# Altium integrated library ON Semi General Purpose Transistors.IntLib: 1679 symbols (part 3 of 36)
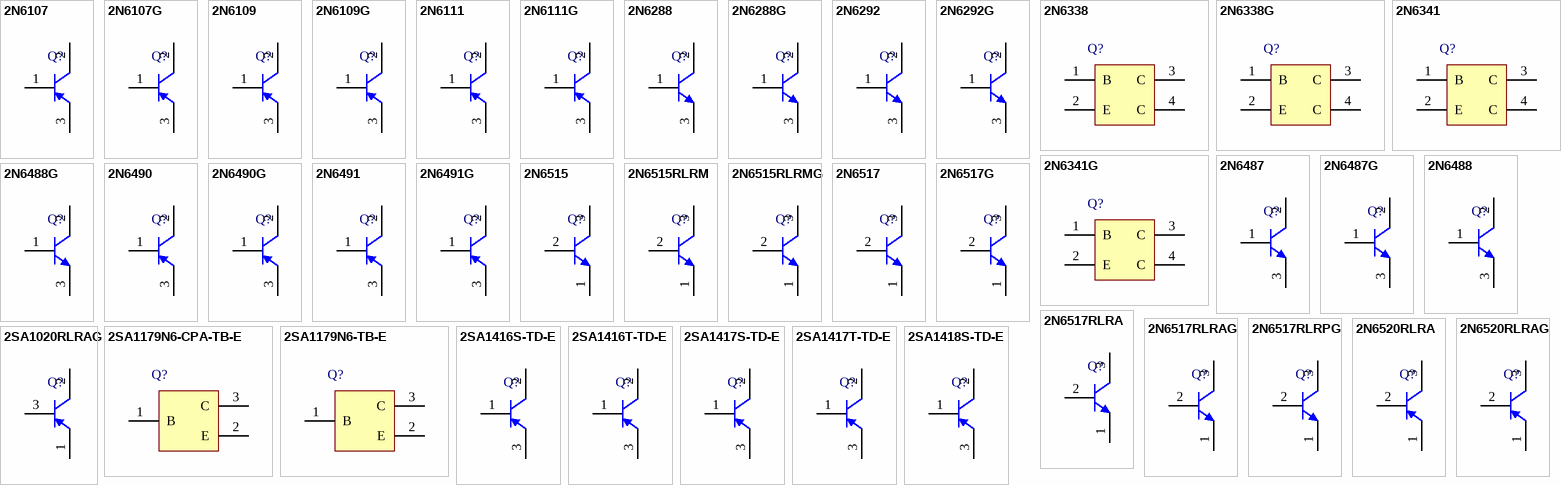
[diagram p47: symbols 2N6107 to 2SA1418S-TD-E]

## 2N6491G
designator Q?
Complementary Silicon Plastic Power Transistor, 3-Pin TO-220, Pb-Free, Tube; Manufacturer: On Semiconductor; PartNumber: 2N6491G; fT Min (MHz): 5; IC Continuous (A): 15; Polarity: PNP; DatasheetVersion: Rev. 15; PackageVersion: Rev. AG, 09/2011; PackageReference: TO-220-3-221A-09; PackageDescription: 3-Pin Flange Mount, Vertical Straight Lead, Body 9.97 x 4.445 mm, Pitch 2.54 mm; Supplier 1: Digi-Key; Supplier Part Number 1: 2N6491GOS-ND; Supplier 2: Newark; Supplier Part Number 2: 72J1874; Supplier 3: Mouser; Supplier Part Number 3: 863-2N6491G; Packing: Tube; RoHS: TRUE; Mounting Technology: Through Hole; ComponentLink1Description: Manufacturer URL; ComponentLink1URL: http://www.onsemi.com/; ComponentLink2Description: Datasheet; ComponentLink2URL: http://www.onsemi.com/pub_link/Collateral/2N6487-D.PDF; ComponentLink3Description: Package Specification; ComponentLink3URL: http://www.onsemi.com/pub_link/Collateral/221A-09.PDF
footprint ONSC-TO-220-3-221A-09 (FM, 3-Leads, Body 10.3x4.85mm, Pitch 2.54mm)
pins: 1 B, 2 C, 3 E

## 2N6515
designator Q?
High Voltage Transistor, NPN, 3-Pin TO-92, Bulk Box; Manufacturer: On Semiconductor; PartNumber: 2N6515; fT Min (MHz): 40; IC Continuous (A): 0.5; DatasheetVersion: Rev. 5; PackageVersion: Rev. AM; PackageReference: TO-92-3-29-11_AM_SL; PackageDescription: 3-Pin Transistor Outline, Body 4.825 x 3.685 mm, Pitch 1.27 mm; Supplier 1: Digi-Key; Supplier Part Number 1: 2N6515-ND; Supplier 2: Newark; Supplier Part Number 2: 09F6456; Supplier 3: Mouser; Supplier Part Number 3: 863-2N6515; Packing: Bulk Box; Polarity: NPN; RoHS: FALSE; Mounting Technology: Through Hole; ComponentLink1Description: Manufacturer URL; ComponentLink1URL: http://www.onsemi.com/; ComponentLink2Description: Datasheet; ComponentLink2URL: http://www.onsemi.com/pub_link/Collateral/2N6515-D.PDF; ComponentLink3Description: Package Specification; ComponentLink3URL: http://www.onsemi.cn/pub_link/Collateral/2N6426-D.PDF
footprint ONSC-TO-92-3-29-11 (TO, 3-Leads, Body Dia 4.7mm, Pitch 1.27mm)
pins: 1 E, 2 B, 3 C

## 2N6515RLRM
designator Q?
High Voltage Transistor, NPN, 3-Pin TO-92, Ammo Box; Manufacturer: On Semiconductor; PartNumber: 2N6515RLRM; fT Min (MHz): 40; IC Continuous (A): 0.5; DatasheetVersion: Rev. 5; PackageVersion: Rev. AM; PackageReference: TO-92-3-29-11_AM_BL; PackageDescription: 3-Pin Transistor Outline, Body 4.825 x 3.685 mm, Pitch 1.27 mm; Supplier 1: Digi-Key; Supplier Part Number 1: 2N6515RLRM-ND; Supplier 2: Mouser; Supplier Part Number 2: 863-2N6515RLRM; Packing: Ammo Box; Polarity: NPN; RoHS: FALSE; Mounting Technology: Through Hole; ComponentLink1Description: Manufacturer URL; ComponentLink1URL: http://www.onsemi.com/; ComponentLink2Description: Datasheet; ComponentLink2URL: http://www.onsemi.com/pub_link/Collateral/2N6515-D.PDF; ComponentLink3Description: Package Specification; ComponentLink3URL: http://www.onsemi.com/pub_link/Collateral/MAC97-D.PDF
footprint ONSC-TO-92-3-29-11_AM_BL (TO, 3-Leads, Body Dia 4.7mm, Pitch 2.6mm)
pins: 1 E, 2 B, 3 C

## 2N6515RLRMG
designator Q?
High Voltage Transistor, NPN, 3-Pin TO-92, Pb-Free, Ammo Box; Manufacturer: On Semiconductor; PartNumber: 2N6515RLRMG; fT Min (MHz): 40; IC Continuous (A): 0.5; DatasheetVersion: Rev. 5; PackageVersion: Rev. AM; PackageReference: TO-92-3-29-11_AM_BL; PackageDescription: 3-Pin Transistor Outline, Body 4.825 x 3.685 mm, Pitch 1.27 mm; Supplier 1: Digi-Key; Supplier Part Number 1: 2N6515RLRMG-ND; Supplier 2: Mouser; Supplier Part Number 2: 863-2N6515RLRMG; Packing: Ammo Box; Polarity: NPN; RoHS: TRUE; Mounting Technology: Through Hole; ComponentLink1Description: Manufacturer URL; ComponentLink1URL: http://www.onsemi.com/; ComponentLink2Description: Datasheet; ComponentLink2URL: http://www.onsemi.com/pub_link/Collateral/2N6515-D.PDF; ComponentLink3Description: Package Specification; ComponentLink3URL: http://www.onsemi.com/pub_link/Collateral/MAC97-D.PDF
footprint ONSC-TO-92-3-29-11_AM_BL (TO, 3-Leads, Body Dia 4.7mm, Pitch 2.6mm)
pins: 1 E, 2 B, 3 C

## 2N6517
designator Q?
High Voltage Transistor, NPN, 3-Pin TO-92, Bulk Box; Manufacturer: On Semiconductor; PartNumber: 2N6517; fT Min (MHz): 40; IC Continuous (A): 0.5; DatasheetVersion: Rev. 5; PackageVersion: Rev. AM; PackageReference: TO-92-3-29-11_AM_SL; PackageDescription: 3-Pin Transistor Outline, Body 4.825 x 3.685 mm, Pitch 1.27 mm; Supplier 1: Digi-Key; Supplier Part Number 1: 2N6517OS-ND; Packing: Bulk Box; Polarity: NPN; RoHS: FALSE; Mounting Technology: Through Hole; ComponentLink1Description: Manufacturer URL; ComponentLink1URL: http://www.onsemi.com/; ComponentLink2Description: Datasheet; ComponentLink2URL: http://www.onsemi.com/pub_link/Collateral/2N6515-D.PDF; ComponentLink3Description: Package Specification; ComponentLink3URL: http://www.onsemi.cn/pub_link/Collateral/2N6426-D.PDF
footprint ONSC-TO-92-3-29-11 (TO, 3-Leads, Body Dia 4.7mm, Pitch 1.27mm)
pins: 1 E, 2 B, 3 C

## 2N6517G
designator Q?
High Voltage Transistor, NPN, 3-Pin TO-92, Pb-Free, Bulk Box; Manufacturer: On Semiconductor; PartNumber: 2N6517G; fT Min (MHz): 40; IC Continuous (A): 0.5; DatasheetVersion: Rev. 5; PackageVersion: Rev. AM; PackageReference: TO-92-3-29-11_AM_SL; PackageDescription: 3-Pin Transistor Outline, Body 4.825 x 3.685 mm, Pitch 1.27 mm; Supplier 1: Digi-Key; Supplier Part Number 1: 2N6517GOS-ND; Supplier 2: Mouser; Supplier Part Number 2: 863-2N6517G; Packing: Bulk Box; Polarity: NPN; RoHS: TRUE; Mounting Technology: Through Hole; ComponentLink1Description: Manufacturer URL; ComponentLink1URL: http://www.onsemi.com/; ComponentLink2Description: Datasheet; ComponentLink2URL: http://www.onsemi.com/pub_link/Collateral/2N6515-D.PDF; ComponentLink3Description: Package Specification; ComponentLink3URL: http://www.onsemi.cn/pub_link/Collateral/2N6426-D.PDF
footprint ONSC-TO-92-3-29-11 (TO, 3-Leads, Body Dia 4.7mm, Pitch 1.27mm)
pins: 1 E, 2 B, 3 C

## 2N6517RLRA
designator Q?
High Voltage Transistor, NPN, 3-Pin TO-92, Tape and Reel; Manufacturer: On Semiconductor; PartNumber: 2N6517RLRA; fT Min (MHz): 40; IC Continuous (A): 0.5; DatasheetVersion: Rev. 5; PackageVersion: Rev. AM; PackageReference: TO-92-3-29-11_AM_BL; PackageDescription: 3-Pin Transistor Outline, Body 4.825 x 3.685 mm, Pitch 1.27 mm; Supplier 1: Digi-Key; Supplier Part Number 1: 2N6517RLRA-ND; Supplier 2: Mouser; Supplier Part Number 2: 863-2N6517RLRA; Packing: Tape and Reel; Polarity: NPN; RoHS: FALSE; Mounting Technology: Through Hole; ComponentLink1Description: Manufacturer URL; ComponentLink1URL: http://www.onsemi.com/; ComponentLink2Description: Datasheet; ComponentLink2URL: http://www.onsemi.com/pub_link/Collateral/2N6515-D.PDF; ComponentLink3Description: Package Specification; ComponentLink3URL: http://www.onsemi.com/pub_link/Collateral/MAC97-D.PDF
footprint ONSC-TO-92-3-29-11_AM_BL (TO, 3-Leads, Body Dia 4.7mm, Pitch 2.6mm)
pins: 1 E, 2 B, 3 C

## 2N6517RLRAG
designator Q?
High Voltage Transistor, NPN, 3-Pin TO-92, Pb-Free, Tape and Reel; Manufacturer: On Semiconductor; PartNumber: 2N6517RLRAG; fT Min (MHz): 40; IC Continuous (A): 0.5; DatasheetVersion: Rev. 5; PackageVersion: Rev. AM; PackageReference: TO-92-3-29-11_AM_BL; PackageDescription: 3-Pin Transistor Outline, Body 4.825 x 3.685 mm, Pitch 1.27 mm; Supplier 1: Digi-Key; Supplier Part Number 1: 2N6517RLRAG-ND; Supplier 2: Mouser; Supplier Part Number 2: 863-2N6517RLRAG; Packing: Tape and Reel; Polarity: NPN; RoHS: TRUE; Mounting Technology: Through Hole; ComponentLink1Description: Manufacturer URL; ComponentLink1URL: http://www.onsemi.com/; ComponentLink2Description: Datasheet; ComponentLink2URL: http://www.onsemi.com/pub_link/Collateral/2N6515-D.PDF; ComponentLink3Description: Package Specification; ComponentLink3URL: http://www.onsemi.com/pub_link/Collateral/MAC97-D.PDF
footprint ONSC-TO-92-3-29-11_AM_BL (TO, 3-Leads, Body Dia 4.7mm, Pitch 2.6mm)
pins: 1 E, 2 B, 3 C

## 2N6517RLRPG
designator Q?
High Voltage Transistor, NPN, 3-Pin TO-92, Pb-Free, Ammo Box; Manufacturer: On Semiconductor; PartNumber: 2N6517RLRPG; fT Min (MHz): 40; IC Continuous (A): 0.5; DatasheetVersion: Rev. 5; PackageVersion: Rev. AM; PackageReference: TO-92-3-29-11_AM_BL; PackageDescription: 3-Pin Transistor Outline, Body 4.825 x 3.685 mm, Pitch 1.27 mm; Supplier 1: Digi-Key; Supplier Part Number 1: 2N6517RLRPG-ND; Supplier 2: Mouser; Supplier Part Number 2: 863-2N6517RLRPG; Packing: Ammo Box; Polarity: NPN; RoHS: TRUE; Mounting Technology: Through Hole; ComponentLink1Description: Manufacturer URL; ComponentLink1URL: http://www.onsemi.com/; ComponentLink2Description: Datasheet; ComponentLink2URL: http://www.onsemi.com/pub_link/Collateral/2N6515-D.PDF; ComponentLink3Description: Package Specification; ComponentLink3URL: http://www.onsemi.com/pub_link/Collateral/MAC97-D.PDF
footprint ONSC-TO-92-3-29-11_AM_BL (TO, 3-Leads, Body Dia 4.7mm, Pitch 2.6mm)
pins: 1 E, 2 B, 3 C

## 2N6520RLRA
designator Q?
High Voltage Transistor, PNP, 3-Pin TO-92, Tape and Reel; Manufacturer: On Semiconductor; PartNumber: 2N6520RLRA; fT Min (MHz): 40; IC Continuous (A): 0.5; DatasheetVersion: Rev. 5; PackageVersion: Rev. AM; PackageReference: TO-92-3-29-11_AM_BL; PackageDescription: 3-Pin Transistor Outline, Body 4.825 x 3.685 mm, Pitch 1.27 mm; Supplier 1: Digi-Key; Supplier Part Number 1: 2N6520RLRAOSTR-ND; Supplier 2: Digi-Key; Supplier Part Number 2: 2N6520RLRAOSCT-ND; Packing: Tape and Reel; Polarity: PNP; RoHS: FALSE; Mounting Technology: Through Hole; ComponentLink1Description: Manufacturer URL; ComponentLink1URL: http://www.onsemi.com/; ComponentLink2Description: Datasheet; ComponentLink2URL: http://www.onsemi.com/pub_link/Collateral/2N6515-D.PDF; ComponentLink3Description: Package Specification; ComponentLink3URL: http://www.onsemi.com/pub_link/Collateral/MAC97-D.PDF
footprint ONSC-TO-92-3-29-11_AM_BL (TO, 3-Leads, Body Dia 4.7mm, Pitch 2.6mm)
pins: 1 E, 2 B, 3 C

## 2N6520RLRAG
designator Q?
High Voltage Transistor, PNP, 3-Pin TO-92, Pb-Free, Tape and Reel; Manufacturer: On Semiconductor; PartNumber: 2N6520RLRAG; fT Min (MHz): 40; IC Continuous (A): 0.5; DatasheetVersion: Rev. 5; PackageVersion: Rev. AM; PackageReference: TO-92-3-29-11_AM_BL; PackageDescription: 3-Pin Transistor Outline, Body 4.825 x 3.685 mm, Pitch 1.27 mm; Supplier 1: Digi-Key; Supplier Part Number 1: 2N6520RLRAGOSTR-ND; Supplier 2: Digi-Key; Supplier Part Number 2: 2N6520RLRAGOSCT-ND; Supplier 3: Farnell; Supplier Part Number 3: 1221208; Supplier 4: Newark; Supplier Part Number 4: 45J2510; Supplier 5: Mouser; Supplier Part Number 5: 863-2N6520RLRAG; Packing: Tape and Reel; Polarity: PNP; RoHS: TRUE; Mounting Technology: Through Hole; ComponentLink1Description: Manufacturer URL; ComponentLink1URL: http://www.onsemi.com/; ComponentLink2Description: Datasheet; ComponentLink2URL: http://www.onsemi.com/pub_link/Collateral/2N6515-D.PDF; ComponentLink3Description: Package Specification; ComponentLink3URL: http://www.onsemi.com/pub_link/Collateral/MAC97-D.PDF
footprint ONSC-TO-92-3-29-11_AM_BL (TO, 3-Leads, Body Dia 4.7mm, Pitch 2.6mm)
pins: 1 E, 2 B, 3 C

## 2SA1020RLRAG
designator Q?
One Watt High Current PNP Transistor, 3-Pin TO-92, Pb-Free, Tape and Reel; Manufacturer: On Semiconductor; PartNumber: 2SA1020RLRAG; fT Min (MHz): 100; IC Continuous (A): -2; DatasheetVersion: Rev. 4; PackageVersion: Rev. A, 05/2012; PackageReference: TO-92-3-29-10_BL; PackageDescription: 3-Pin Transistor Outline, Body 4.825 x 3.685 mm, Pitch 1.27 mm; Supplier 1: Digi-Key; Supplier Part Number 1: 2SA1020RLRAGOSTR-ND; Supplier 2: Digi-Key; Supplier Part Number 2: 2SA1020RLRAGOSCT-ND; Supplier 3: Farnell; Supplier Part Number 3: 2317560; Supplier 4: Newark; Supplier Part Number 4: 90W9724; Supplier 5: Newark; Supplier Part Number 5: 88H5175; Supplier 6: Mouser; Supplier Part Number 6: 863-2SA1020RLRAG; Packing: Tape and Reel; Polarity: PNP; RoHS: TRUE; Mounting Technology: Through Hole; ComponentLink1Description: Manufacturer URL; ComponentLink1URL: http://www.onsemi.com/; ComponentLink2Description: Datasheet; ComponentLink2URL: http://www.onsemi.com/pub_link/Collateral/2SA1020-D.PDF; ComponentLink3Description: Package Specification; ComponentLink3URL: http://www.onsemi.cn/pub_link/Collateral/29-10.PDF
footprint ONSC-TO-92-3-29-10_BL (TO, 3-Leads, Body Dia 4.7 mm, Pitch 2.6 mm)
pins: 1 E, 2 C, 3 B

## 2SA1179N6-CPA-TB-E
designator Q?
Bipolar Transistor, -50 V, -150 mA, Low VCE(sat), PNP Single, 3-Pin CPA, Pb-Free, Tape and Reel; Manufacturer: On Semiconductor; PartNumber: 2SA1179N6-CPA-TB-E; IC Continuous (A): -0.15; PackageReference: CPA-3; PackageDescription: 3-Pin FM, Body 8.1 x 10 mm, Pitch 2.54 mm; Supplier 1: Digi-Key; Supplier Part Number 1: 2SA1179N6-CPA-TB-E-ND; Supplier 2: Newark; Supplier Part Number 2: 07W7576; Supplier 3: Mouser; Supplier Part Number 3: 863-2SA1179N6CPATB-E; Packing: Tape and Reel; Polarity: PNP; RoHS: TRUE; Mounting Technology: Surface Mount; ComponentLink1Description: Manufacturer URL; ComponentLink1URL: http://www.onsemi.com/; ComponentLink2Description: Datasheet; ComponentLink2URL: http://www.onsemi.com/pub_link/Collateral/EN7198-D.PDF; ComponentLink3Description: Package Specification; ComponentLink3URL: http://www.onsemi.com/pub_link/Collateral/EN7198-D.PDF
footprint ONSC-CPA-3_V (SOT23, 3-Leads, Body 2.93x1.3mm, Pitch 0.95mm)
pins: 1 B, 2 E, 3 C

## 2SA1179N6-TB-E
designator Q?
Bipolar Transistor, -50 V, -150 mA, Low VCE(sat), PNP Single, 3-Pin CPA, Pb-Free, Tape and Reel; Manufacturer: On Semiconductor; PartNumber: 2SA1179N6-TB-E; IC Continuous (A): -0.15; PackageReference: CPA-3; PackageDescription: 3-Pin FM, Body 8.1 x 10 mm, Pitch 2.54 mm; Supplier 1: Digi-Key; Supplier Part Number 1: 2SA1179N6-TB-E-ND; Supplier 2: Newark; Supplier Part Number 2: 65T2426; Supplier 3: Mouser; Supplier Part Number 3: 863-2SA1179N6-TB-E; Packing: Tape and Reel; Polarity: PNP; RoHS: TRUE; Mounting Technology: Surface Mount; ComponentLink1Description: Manufacturer URL; ComponentLink1URL: http://www.onsemi.com/; ComponentLink2Description: Datasheet; ComponentLink2URL: http://www.onsemi.com/pub_link/Collateral/EN7198-D.PDF; ComponentLink3Description: Package Specification; ComponentLink3URL: http://www.onsemi.com/pub_link/Collateral/EN7198-D.PDF
footprint ONSC-CPA-3_V (SOT23, 3-Leads, Body 2.93x1.3mm, Pitch 0.95mm)
pins: 1 B, 2 E, 3 C

## 2SA1416S-TD-E
designator Q?
Bipolar Transistor, -100 V, -1 A, Low VCE(sat), PNP Single, 3-Pin SOT-89, Pb-Free, Tape and Reel; Manufacturer: On Semiconductor; PartNumber: 2SA1416S-TD-E; PackageVersion: Rev. O, 04/2012; PackageReference: SOT-89_PCP-1-3-419AU; PackageDescription: 3-Pin Small Outline Transistor, Body 4.5 x 2.5 mm, Pitch 1.5 mm; Supplier 1: Digi-Key; Supplier Part Number 1: 2SA1416S-TD-E-ND; Supplier 2: Mouser; Supplier Part Number 2: 863-2SA1416S-TD-E; IC Continuous (A): -1; Packing: Tape and Reel; Polarity: PNP; RoHS: TRUE; Mounting Technology: Surface Mount; ComponentLink1Description: Manufacturer URL; ComponentLink1URL: http://www.onsemi.com/; ComponentLink2Description: Datasheet; ComponentLink2URL: http://www.onsemi.com/pub_link/Collateral/EN2005-D.PDF; ComponentLink3Description: Package Specification; ComponentLink3URL: http://www.onsemi.com/pub_link/Collateral/ENA1087-D.PDF
footprint ONSC-SOT-89_PCP-1-3-419AU_V (SOT89, 3-Leads, Body 4.5x2.5mm, Pitch 1.5mm)
pins: 1 B, 2 C, 3 E

## 2SA1416T-TD-E
designator Q?
Bipolar Transistor, -100 V, -1 A, Low VCE(sat), PNP Single, 3-Pin SOT-89, Pb-Free, Tape and Reel; Manufacturer: On Semiconductor; PartNumber: 2SA1416T-TD-E; PackageVersion: Rev. O, 04/2012; PackageReference: SOT-89_PCP-1-3-419AU; PackageDescription: 3-Pin Small Outline Transistor, Body 4.5 x 2.5 mm, Pitch 1.5 mm; Supplier 1: Digi-Key; Supplier Part Number 1: 2SA1416T-TD-E-ND; Supplier 2: Mouser; Supplier Part Number 2: 863-2SA1416T-TD-E; IC Continuous (A): -1; Packing: Tape and Reel; Polarity: PNP; RoHS: TRUE; Mounting Technology: Surface Mount; ComponentLink1Description: Manufacturer URL; ComponentLink1URL: http://www.onsemi.com/; ComponentLink2Description: Datasheet; ComponentLink2URL: http://www.onsemi.com/pub_link/Collateral/EN2005-D.PDF; ComponentLink3Description: Package Specification; ComponentLink3URL: http://www.onsemi.com/pub_link/Collateral/ENA1087-D.PDF
footprint ONSC-SOT-89_PCP-1-3-419AU_V (SOT89, 3-Leads, Body 4.5x2.5mm, Pitch 1.5mm)
pins: 1 B, 2 C, 3 E

## 2SA1417S-TD-E
designator Q?
Bipolar Transistor, -100 V, -2 A, Low VCE(sat), PNP Single, 3-Pin SOT-89, Pb-Free, Tape and Reel; Manufacturer: On Semiconductor; PartNumber: 2SA1417S-TD-E; PackageVersion: Rev. O, 04/2012; PackageReference: SOT-89_PCP-1-3-419AU; PackageDescription: 3-Pin Small Outline Transistor, Body 4.5 x 2.5 mm, Pitch 1.5 mm; Supplier 1: Digi-Key; Supplier Part Number 1: 2SA1417S-TD-E-ND; Supplier 2: Mouser; Supplier Part Number 2: 863-2SA1417S-TD-E; IC Continuous (A): -2; Packing: Tape and Reel; Polarity: PNP; RoHS: TRUE; Mounting Technology: Surface Mount; ComponentLink1Description: Manufacturer URL; ComponentLink1URL: http://www.onsemi.com/; ComponentLink2Description: Datasheet; ComponentLink2URL: http://www.onsemi.com/pub_link/Collateral/EN2006-D.PDF; ComponentLink3Description: Package Specification; ComponentLink3URL: http://www.onsemi.com/pub_link/Collateral/ENA1087-D.PDF
footprint ONSC-SOT-89_PCP-1-3-419AU_V (SOT89, 3-Leads, Body 4.5x2.5mm, Pitch 1.5mm)
pins: 1 B, 2 C, 3 E

## 2SA1417T-TD-E
designator Q?
Bipolar Transistor, -100 V, -2 A, Low VCE(sat), PNP Single, 3-Pin SOT-89, Pb-Free, Tape and Reel; Manufacturer: On Semiconductor; PartNumber: 2SA1417T-TD-E; PackageVersion: Rev. O, 04/2012; PackageReference: SOT-89_PCP-1-3-419AU; PackageDescription: 3-Pin Small Outline Transistor, Body 4.5 x 2.5 mm, Pitch 1.5 mm; Supplier 1: Digi-Key; Supplier Part Number 1: 2SA1417T-TD-E-ND; Supplier 2: Mouser; Supplier Part Number 2: 863-2SA1417T-TD-E; IC Continuous (A): -2; Packing: Tape and Reel; Polarity: PNP; RoHS: TRUE; Mounting Technology: Surface Mount; ComponentLink1Description: Manufacturer URL; ComponentLink1URL: http://www.onsemi.com/; ComponentLink2Description: Datasheet; ComponentLink2URL: http://www.onsemi.com/pub_link/Collateral/EN2006-D.PDF; ComponentLink3Description: Package Specification; ComponentLink3URL: http://www.onsemi.com/pub_link/Collateral/ENA1087-D.PDF
footprint ONSC-SOT-89_PCP-1-3-419AU_V (SOT89, 3-Leads, Body 4.5x2.5mm, Pitch 1.5mm)
pins: 1 B, 2 C, 3 E

## 2SA1418S-TD-E
designator Q?
Bipolar Transistor, -160 V, -0.7 A, Low VCE(sat), PNP Single, 3-Pin SOT-89, Pb-Free, Tape and Reel; Manufacturer: On Semiconductor; PartNumber: 2SA1418S-TD-E; PackageVersion: Rev. O, 04/2012; PackageReference: SOT-89_PCP-1-3-419AU; PackageDescription: 3-Pin Small Outline Transistor, Body 4.5 x 2.5 mm, Pitch 1.5 mm; Supplier 1: Digi-Key; Supplier Part Number 1: 2SA1418S-TD-E-ND; Supplier 2: Newark; Supplier Part Number 2: 65T2431; Supplier 3: Mouser; Supplier Part Number 3: 863-2SA1418S-TD-E; IC Continuous (A): -0.7; Packing: Tape and Reel; Polarity: PNP; RoHS: TRUE; Mounting Technology: Surface Mount; ComponentLink1Description: Manufacturer URL; ComponentLink1URL: http://www.onsemi.com/; ComponentLink2Description: Datasheet; ComponentLink2URL: http://www.onsemi.com/pub_link/Collateral/EN1788-D.PDF; ComponentLink3Description: Package Specification; ComponentLink3URL: http://www.onsemi.com/pub_link/Collateral/ENA1087-D.PDF
footprint ONSC-SOT-89_PCP-1-3-419AU_V (SOT89, 3-Leads, Body 4.5x2.5mm, Pitch 1.5mm)
pins: 1 B, 2 C, 3 E

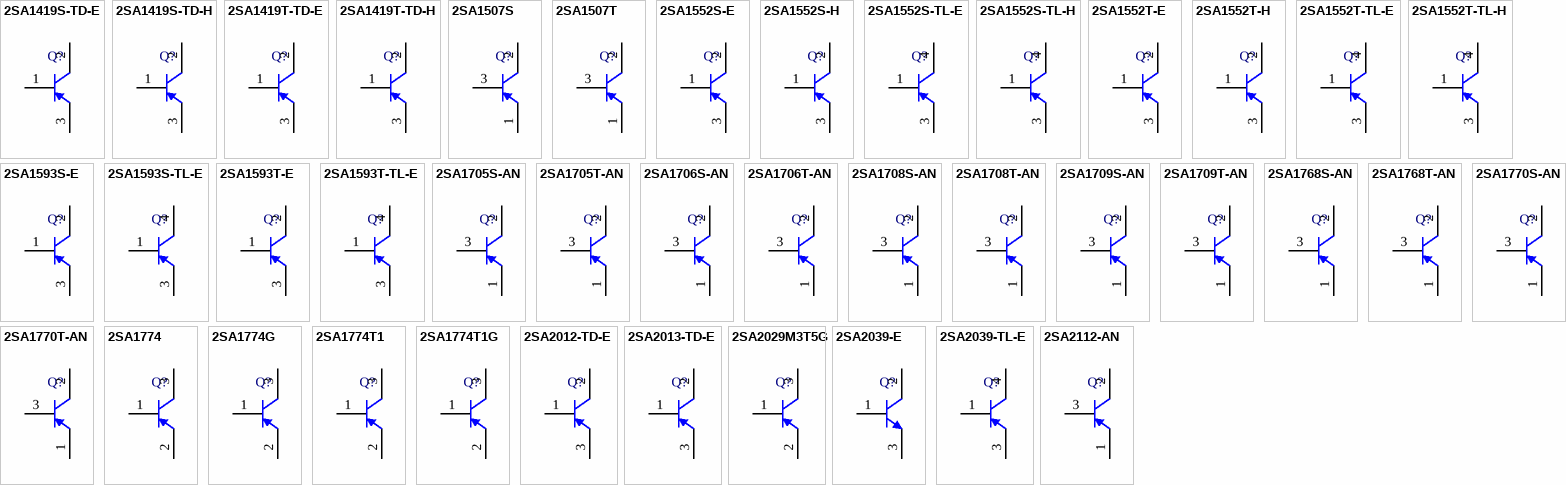
[diagram p3: symbols 2SA1419S-TD-E to 2SA2112-AN]

## 2SA1419S-TD-E
designator Q?
Bipolar Transistor, -160 V, -1.5 A, Low VCE(sat), PNP Single, 3-Pin SOT-89, Pb-Free, Tape and Reel; Manufacturer: On Semiconductor; PartNumber: 2SA1419S-TD-E; PackageVersion: Rev. O, 04/2012; PackageReference: SOT-89_PCP-1-3-419AU; PackageDescription: 3-Pin Small Outline Transistor, Body 4.5 x 2.5 mm, Pitch 1.5 mm; Supplier 1: Digi-Key; Supplier Part Number 1: 2SA1419S-TD-E-ND; Supplier 2: Mouser; Supplier Part Number 2: 863-2SA1419S-TD-E; IC Continuous (A): -1.5; Packing: Tape and Reel; Polarity: PNP; RoHS: TRUE; Mounting Technology: Surface Mount; ComponentLink1Description: Manufacturer URL; ComponentLink1URL: http://www.onsemi.com/; ComponentLink2Description: Datasheet; ComponentLink2URL: http://www.onsemi.com/pub_link/Collateral/EN2007-D.PDF; ComponentLink3Description: Package Specification; ComponentLink3URL: http://www.onsemi.com/pub_link/Collateral/ENA1087-D.PDF
footprint ONSC-SOT-89_PCP-1-3-419AU_V (SOT89, 3-Leads, Body 4.5x2.5mm, Pitch 1.5mm)
pins: 1 B, 2 C, 3 E

## 2SA1419S-TD-H
designator Q?
Bipolar Transistor, -160 V, -1.5 A, Low VCE(sat), PNP Single, 3-Pin SOT-89, Pb-Free, Tape and Reel; Manufacturer: On Semiconductor; PartNumber: 2SA1419S-TD-H; PackageVersion: Rev. O, 04/2012; PackageReference: SOT-89_PCP-1-3-419AU; PackageDescription: 3-Pin Small Outline Transistor, Body 4.5 x 2.5 mm, Pitch 1.5 mm; Supplier 1: Digi-Key; Supplier Part Number 1: 2SA1419S-TD-H-ND; Supplier 2: Mouser; Supplier Part Number 2: 863-2SA1419S-TD-H; IC Continuous (A): -1.5; Packing: Tape and Reel; Polarity: PNP; RoHS: TRUE; Mounting Technology: Surface Mount; ComponentLink1Description: Manufacturer URL; ComponentLink1URL: http://www.onsemi.com/; ComponentLink2Description: Datasheet; ComponentLink2URL: http://www.onsemi.com/pub_link/Collateral/EN2007-D.PDF; ComponentLink3Description: Package Specification; ComponentLink3URL: http://www.onsemi.com/pub_link/Collateral/ENA1087-D.PDF
footprint ONSC-SOT-89_PCP-1-3-419AU_V (SOT89, 3-Leads, Body 4.5x2.5mm, Pitch 1.5mm)
pins: 1 B, 2 C, 3 E

## 2SA1419T-TD-E
designator Q?
Bipolar Transistor, -160 V, -1.5 A, Low VCE(sat), PNP Single, 3-Pin SOT-89, Pb-Free, Tape and Reel; Manufacturer: On Semiconductor; PartNumber: 2SA1419T-TD-E; PackageVersion: Rev. O, 04/2012; PackageReference: SOT-89_PCP-1-3-419AU; PackageDescription: 3-Pin Small Outline Transistor, Body 4.5 x 2.5 mm, Pitch 1.5 mm; Supplier 1: Digi-Key; Supplier Part Number 1: 2SA1419T-TD-E-ND; Supplier 2: Mouser; Supplier Part Number 2: 863-2SA1419T-TD-E; IC Continuous (A): -1.5; Packing: Tape and Reel; Polarity: PNP; RoHS: TRUE; Mounting Technology: Surface Mount; ComponentLink1Description: Manufacturer URL; ComponentLink1URL: http://www.onsemi.com/; ComponentLink2Description: Datasheet; ComponentLink2URL: http://www.onsemi.com/pub_link/Collateral/EN2007-D.PDF; ComponentLink3Description: Package Specification; ComponentLink3URL: http://www.onsemi.com/pub_link/Collateral/ENA1087-D.PDF
footprint ONSC-SOT-89_PCP-1-3-419AU_V (SOT89, 3-Leads, Body 4.5x2.5mm, Pitch 1.5mm)
pins: 1 B, 2 C, 3 E

## 2SA1419T-TD-H
designator Q?
Bipolar Transistor, -160 V, -1.5 A, Low VCE(sat), PNP Single, 3-Pin SOT-89, Pb-Free, Tape and Reel; Manufacturer: On Semiconductor; PartNumber: 2SA1419T-TD-H; PackageVersion: Rev. O, 04/2012; PackageReference: SOT-89_PCP-1-3-419AU; PackageDescription: 3-Pin Small Outline Transistor, Body 4.5 x 2.5 mm, Pitch 1.5 mm; Supplier 1: Digi-Key; Supplier Part Number 1: 2SA1419T-TD-H-ND; Supplier 2: Mouser; Supplier Part Number 2: 863-2SA1419T-TD-H; IC Continuous (A): -1.5; Packing: Tape and Reel; Polarity: PNP; RoHS: TRUE; Mounting Technology: Surface Mount; ComponentLink1Description: Manufacturer URL; ComponentLink1URL: http://www.onsemi.com/; ComponentLink2Description: Datasheet; ComponentLink2URL: http://www.onsemi.com/pub_link/Collateral/EN2007-D.PDF; ComponentLink3Description: Package Specification; ComponentLink3URL: http://www.onsemi.com/pub_link/Collateral/ENA1087-D.PDF
footprint ONSC-SOT-89_PCP-1-3-419AU_V (SOT89, 3-Leads, Body 4.5x2.5mm, Pitch 1.5mm)
pins: 1 B, 2 C, 3 E

## 2SA1507S
designator Q?
Bipolar Transistor, -160 V, -1.5 A, Low VCE(sat), PNP Single, 3-Pin TO-126ML, Pb-Free, Bulk Bag; Manufacturer: On Semiconductor; PartNumber: 2SA1507S; PackageVersion: Rev. O, 01/2012; PackageReference: TO-126ML-3-77AC; PackageDescription: 3-Pin Flange Mount, Vertical Straight Lead, Body 8 x 3.3 mm, Pitch 2.4 mm; Supplier 1: Digi-Key; Supplier Part Number 1: 2SA1507S-ND; Supplier 2: Mouser; Supplier Part Number 2: 863-2SA1507S; IC Continuous (A): -1.5; Packing: Bulk Bag; Polarity: PNP; RoHS: TRUE; Mounting Technology: Through Hole; ComponentLink1Description: Manufacturer URL; ComponentLink1URL: http://www.onsemi.com/; ComponentLink2Description: Datasheet; ComponentLink2URL: http://www.onsemi.com/pub_link/Collateral/EN2101-D.PDF; ComponentLink3Description: Package Specification; ComponentLink3URL: http://www.onsemi.com/pub_link/Collateral/77AC.PDF
footprint ONSC-TO-126ML-3-77AC (FM, 3-Leads, Body 8.2x3.5mm, Pitch 2.4mm)
pins: 1 E, 2 C, 3 B

## 2SA1507T
designator Q?
Bipolar Transistor, -160 V, -1.5 A, Low VCE(sat), PNP Single, 3-Pin TO-126ML, Pb-Free, Bulk Bag; Manufacturer: On Semiconductor; PartNumber: 2SA1507T; PackageVersion: Rev. O, 01/2012; PackageReference: TO-126ML-3-77AC; PackageDescription: 3-Pin Flange Mount, Vertical Straight Lead, Body 8 x 3.3 mm, Pitch 2.4 mm; Supplier 1: Digi-Key; Supplier Part Number 1: 2SA1507T-ND; Supplier 2: Mouser; Supplier Part Number 2: 863-2SA1507T; IC Continuous (A): -1.5; Packing: Bulk Bag; Polarity: PNP; RoHS: TRUE; Mounting Technology: Through Hole; ComponentLink1Description: Manufacturer URL; ComponentLink1URL: http://www.onsemi.com/; ComponentLink2Description: Datasheet; ComponentLink2URL: http://www.onsemi.com/pub_link/Collateral/EN2101-D.PDF; ComponentLink3Description: Package Specification; ComponentLink3URL: http://www.onsemi.com/pub_link/Collateral/77AC.PDF
footprint ONSC-TO-126ML-3-77AC (FM, 3-Leads, Body 8.2x3.5mm, Pitch 2.4mm)
pins: 1 E, 2 C, 3 B

## 2SA1552S-E
designator Q?
Bipolar Transistor, -160 V, -1.5 A, Low VCE(sat), PNP Single, 3-Pin IPAK, Pb-Free, Bulk Bag; Manufacturer: On Semiconductor; PartNumber: 2SA1552S-E; PackageVersion: Rev. O, 01/2012; PackageReference: IPAK-3-369AJ; PackageDescription: 3-Pin Flange Mount, Vertical Straight Lead, Body 6.5 x 5.5 mm, Pitch 2.3 mm; Supplier 1: Digi-Key; Supplier Part Number 1: 2SA1552S-E-ND; Supplier 2: Mouser; Supplier Part Number 2: 863-2SA1552S-E; IC Continuous (A): -1.5; Packing: Bulk Bag; Polarity: PNP; RoHS: TRUE; Mounting Technology: Through Hole; ComponentLink1Description: Manufacturer URL; ComponentLink1URL: http://www.onsemi.com/; ComponentLink2Description: Datasheet; ComponentLink2URL: http://www.onsemi.com/pub_link/Collateral/EN2262-D.PDF; ComponentLink3Description: Package Specification; ComponentLink3URL: http://www.onsemi.cn/pub_link/Collateral/369AJ.PDF
footprint ONSC-IPAK-3-369AJ (FM, 3-Leads, Body 6.7x2.5mm, Pitch 2.3mm)
pins: 1 B, 2 C, 3 E

## 2SA1552S-H
designator Q?
Bipolar Transistor, -160 V, -1.5 A, Low VCE(sat), PNP Single, 3-Pin IPAK, Pb-Free, Bulk Bag; Manufacturer: On Semiconductor; PartNumber: 2SA1552S-H; PackageVersion: Rev. O, 01/2012; PackageReference: IPAK-3-369AJ; PackageDescription: 3-Pin Flange Mount, Vertical Straight Lead, Body 6.5 x 5.5 mm, Pitch 2.3 mm; Supplier 1: Digi-Key; Supplier Part Number 1: 2SA1552S-H-ND; Supplier 2: Mouser; Supplier Part Number 2: 863-2SA1552S-H; IC Continuous (A): -1.5; Packing: Bulk Bag; Polarity: PNP; RoHS: TRUE; Mounting Technology: Through Hole; ComponentLink1Description: Manufacturer URL; ComponentLink1URL: http://www.onsemi.com/; ComponentLink2Description: Datasheet; ComponentLink2URL: http://www.onsemi.com/pub_link/Collateral/EN2262-D.PDF; ComponentLink3Description: Package Specification; ComponentLink3URL: http://www.onsemi.cn/pub_link/Collateral/369AJ.PDF
footprint ONSC-IPAK-3-369AJ (FM, 3-Leads, Body 6.7x2.5mm, Pitch 2.3mm)
pins: 1 B, 2 C, 3 E

## 2SA1552S-TL-E
designator Q?
Bipolar Transistor, -160 V, -1.5 A, Low VCE(sat), PNP Single, 3-Pin TP-FA, Pb-Free, Tape and Reel; Manufacturer: On Semiconductor; PartNumber: 2SA1552S-TL-E; PackageVersion: Rev. O, 01/2012; PackageReference: TP-FA-3-369AH; PackageDescription: 3-Pin Flange Mount, Body 6.5 x 5.5 mm, Pitch 2.3 mm; Supplier 1: Digi-Key; Supplier Part Number 1: 2SA1552S-TL-E-ND; Supplier 2: Mouser; Supplier Part Number 2: 863-2SA1552S-TL-E; IC Continuous (A): -1.5; Packing: Tape and Reel; Polarity: PNP; RoHS: TRUE; Mounting Technology: Surface Mount; ComponentLink1Description: Manufacturer URL; ComponentLink1URL: http://www.onsemi.com/; ComponentLink2Description: Datasheet; ComponentLink2URL: http://www.onsemi.com/pub_link/Collateral/EN2262-D.PDF; ComponentLink3Description: Package Specification; ComponentLink3URL: http://www.onsemi.com/pub_link/Collateral/369AH.PDF
footprint ONSC-TP-FA-3-369AH_V (DPAK, 3-Leads, Body 6.5x5.5mm, Pitch 2.3mm)
pins: 1 B, 3 E, 4 C

## 2SA1552S-TL-H
designator Q?
Bipolar Transistor, -160 V, -1.5 A, Low VCE(sat), PNP Single, 3-Pin TP-FA, Pb-Free, Tape and Reel; Manufacturer: On Semiconductor; PartNumber: 2SA1552S-TL-H; PackageVersion: Rev. O, 01/2012; PackageReference: TP-FA-3-369AH; PackageDescription: 3-Pin Flange Mount, Body 6.5 x 5.5 mm, Pitch 2.3 mm; Supplier 1: Digi-Key; Supplier Part Number 1: 2SA1552S-TL-H-ND; Supplier 2: Mouser; Supplier Part Number 2: 863-2SA1552S-TL-H; IC Continuous (A): -1.5; Packing: Tape and Reel; Polarity: PNP; RoHS: TRUE; Mounting Technology: Surface Mount; ComponentLink1Description: Manufacturer URL; ComponentLink1URL: http://www.onsemi.com/; ComponentLink2Description: Datasheet; ComponentLink2URL: http://www.onsemi.com/pub_link/Collateral/EN2262-D.PDF; ComponentLink3Description: Package Specification; ComponentLink3URL: http://www.onsemi.com/pub_link/Collateral/369AH.PDF
footprint ONSC-TP-FA-3-369AH_V (DPAK, 3-Leads, Body 6.5x5.5mm, Pitch 2.3mm)
pins: 1 B, 3 E, 4 C

## 2SA1552T-E
designator Q?
Bipolar Transistor, -160 V, -1.5 A, Low VCE(sat), PNP Single, 3-Pin IPAK, Pb-Free, Bulk Bag; Manufacturer: On Semiconductor; PartNumber: 2SA1552T-E; PackageVersion: Rev. O, 01/2012; PackageReference: IPAK-3-369AJ; PackageDescription: 3-Pin Flange Mount, Vertical Straight Lead, Body 6.5 x 5.5 mm, Pitch 2.3 mm; Supplier 1: Digi-Key; Supplier Part Number 1: 2SA1552T-E-ND; Supplier 2: Mouser; Supplier Part Number 2: 863-2SA1552T-E; IC Continuous (A): -1.5; Packing: Bulk Bag; Polarity: PNP; RoHS: TRUE; Mounting Technology: Through Hole; ComponentLink1Description: Manufacturer URL; ComponentLink1URL: http://www.onsemi.com/; ComponentLink2Description: Datasheet; ComponentLink2URL: http://www.onsemi.com/pub_link/Collateral/EN2262-D.PDF; ComponentLink3Description: Package Specification; ComponentLink3URL: http://www.onsemi.cn/pub_link/Collateral/369AJ.PDF
footprint ONSC-IPAK-3-369AJ (FM, 3-Leads, Body 6.7x2.5mm, Pitch 2.3mm)
pins: 1 B, 2 C, 3 E

## 2SA1552T-H
designator Q?
Bipolar Transistor, -160 V, -1.5 A, Low VCE(sat), PNP Single, 3-Pin IPAK, Pb-Free, Bulk Bag; Manufacturer: On Semiconductor; PartNumber: 2SA1552T-H; PackageVersion: Rev. O, 01/2012; PackageReference: IPAK-3-369AJ; PackageDescription: 3-Pin Flange Mount, Vertical Straight Lead, Body 6.5 x 5.5 mm, Pitch 2.3 mm; Supplier 1: Digi-Key; Supplier Part Number 1: 2SA1552T-H-ND; Supplier 2: Mouser; Supplier Part Number 2: 863-2SA1552T-H; IC Continuous (A): -1.5; Packing: Bulk Bag; Polarity: PNP; RoHS: TRUE; Mounting Technology: Through Hole; ComponentLink1Description: Manufacturer URL; ComponentLink1URL: http://www.onsemi.com/; ComponentLink2Description: Datasheet; ComponentLink2URL: http://www.onsemi.com/pub_link/Collateral/EN2262-D.PDF; ComponentLink3Description: Package Specification; ComponentLink3URL: http://www.onsemi.cn/pub_link/Collateral/369AJ.PDF
footprint ONSC-IPAK-3-369AJ (FM, 3-Leads, Body 6.7x2.5mm, Pitch 2.3mm)
pins: 1 B, 2 C, 3 E

## 2SA1552T-TL-E
designator Q?
Bipolar Transistor, -160 V, -1.5 A, Low VCE(sat), PNP Single, 3-Pin TP-FA, Pb-Free, Tape and Reel; Manufacturer: On Semiconductor; PartNumber: 2SA1552T-TL-E; PackageVersion: Rev. O, 01/2012; PackageReference: TP-FA-3-369AH; PackageDescription: 3-Pin Flange Mount, Body 6.5 x 5.5 mm, Pitch 2.3 mm; Supplier 1: Digi-Key; Supplier Part Number 1: 2SA1552T-TL-E-ND; Supplier 2: Mouser; Supplier Part Number 2: 863-2SA1552T-TL-E; IC Continuous (A): -1.5; Packing: Tape and Reel; Polarity: PNP; RoHS: TRUE; Mounting Technology: Surface Mount; ComponentLink1Description: Manufacturer URL; ComponentLink1URL: http://www.onsemi.com/; ComponentLink2Description: Datasheet; ComponentLink2URL: http://www.onsemi.com/pub_link/Collateral/EN2262-D.PDF; ComponentLink3Description: Package Specification; ComponentLink3URL: http://www.onsemi.com/pub_link/Collateral/369AH.PDF
footprint ONSC-TP-FA-3-369AH_V (DPAK, 3-Leads, Body 6.5x5.5mm, Pitch 2.3mm)
pins: 1 B, 3 E, 4 C

## 2SA1552T-TL-H
designator Q?
Bipolar Transistor, -160 V, -1.5 A, Low VCE(sat), PNP Single, 3-Pin TP-FA, Pb-Free, Tape and Reel; Manufacturer: On Semiconductor; PartNumber: 2SA1552T-TL-H; PackageVersion: Rev. O, 01/2012; PackageReference: TP-FA-3-369AH; PackageDescription: 3-Pin Flange Mount, Body 6.5 x 5.5 mm, Pitch 2.3 mm; Supplier 1: Digi-Key; Supplier Part Number 1: 2SA1552T-TL-H-ND; Supplier 2: Mouser; Supplier Part Number 2: 863-2SA1552T-TL-H; IC Continuous (A): -1.5; Packing: Tape and Reel; Polarity: PNP; RoHS: TRUE; Mounting Technology: Surface Mount; ComponentLink1Description: Manufacturer URL; ComponentLink1URL: http://www.onsemi.com/; ComponentLink2Description: Datasheet; ComponentLink2URL: http://www.onsemi.com/pub_link/Collateral/EN2262-D.PDF; ComponentLink3Description: Package Specification; ComponentLink3URL: http://www.onsemi.com/pub_link/Collateral/369AH.PDF
footprint ONSC-TP-FA-3-369AH_V (DPAK, 3-Leads, Body 6.5x5.5mm, Pitch 2.3mm)
pins: 1 B, 3 E, 4 C

## 2SA1593S-E
designator Q?
Bipolar Transistor, -100 V, -2 A, Low VCE(sat), PNP Single, 3-Pin IPAK, Pb-Free, Bulk Bag; Manufacturer: On Semiconductor; PartNumber: 2SA1593S-E; PackageVersion: Rev. O, 01/2012; PackageReference: IPAK-3-369AJ; PackageDescription: 3-Pin Flange Mount, Vertical Straight Lead, Body 6.5 x 5.5 mm, Pitch 2.3 mm; Supplier 1: Digi-Key; Supplier Part Number 1: 2SA1593S-E-ND; Supplier 2: Mouser; Supplier Part Number 2: 863-2SA1593S-E; IC Continuous (A): -2; Packing: Bulk Bag; Polarity: PNP; RoHS: TRUE; Mounting Technology: Through Hole; ComponentLink1Description: Manufacturer URL; ComponentLink1URL: http://www.onsemi.com/; ComponentLink2Description: Datasheet; ComponentLink2URL: http://www.onsemi.com/pub_link/Collateral/EN2511-D.PDF; ComponentLink3Description: Package Specification; ComponentLink3URL: http://www.onsemi.cn/pub_link/Collateral/369AJ.PDF
footprint ONSC-IPAK-3-369AJ (FM, 3-Leads, Body 6.7x2.5mm, Pitch 2.3mm)
pins: 1 B, 2 C, 3 E

## 2SA1593S-TL-E
designator Q?
Bipolar Transistor, -100 V, -2 A, Low VCE(sat), PNP Single, 3-Pin TP-FA, Pb-Free, Tape and Reel; Manufacturer: On Semiconductor; PartNumber: 2SA1593S-TL-E; PackageVersion: Rev. O, 01/2012; PackageReference: TP-FA-3-369AH; PackageDescription: 3-Pin Flange Mount, Body 6.5 x 5.5 mm, Pitch 2.3 mm; Supplier 1: Digi-Key; Supplier Part Number 1: 2SA1593S-TL-E-ND; Supplier 2: Mouser; Supplier Part Number 2: 863-2SA1593S-TL-E; IC Continuous (A): -2; Packing: Tape and Reel; Polarity: PNP; RoHS: TRUE; Mounting Technology: Surface Mount; ComponentLink1Description: Manufacturer URL; ComponentLink1URL: http://www.onsemi.com/; ComponentLink2Description: Datasheet; ComponentLink2URL: http://www.onsemi.com/pub_link/Collateral/EN2511-D.PDF; ComponentLink3Description: Package Specification; ComponentLink3URL: http://www.onsemi.com/pub_link/Collateral/369AH.PDF
footprint ONSC-TP-FA-3-369AH_V (DPAK, 3-Leads, Body 6.5x5.5mm, Pitch 2.3mm)
pins: 1 B, 3 E, 4 C

## 2SA1593T-E
designator Q?
Bipolar Transistor, -100 V, -2 A, Low VCE(sat), PNP Single, 3-Pin IPAK, Pb-Free, Bulk Bag; Manufacturer: On Semiconductor; PartNumber: 2SA1593T-E; PackageVersion: Rev. O, 01/2012; PackageReference: IPAK-3-369AJ; PackageDescription: 3-Pin Flange Mount, Vertical Straight Lead, Body 6.5 x 5.5 mm, Pitch 2.3 mm; Supplier 1: Digi-Key; Supplier Part Number 1: 2SA1593T-E-ND; Supplier 2: Mouser; Supplier Part Number 2: 863-2SA1593T-E; IC Continuous (A): -2; Packing: Bulk Bag; Polarity: PNP; RoHS: TRUE; Mounting Technology: Through Hole; ComponentLink1Description: Manufacturer URL; ComponentLink1URL: http://www.onsemi.com/; ComponentLink2Description: Datasheet; ComponentLink2URL: http://www.onsemi.com/pub_link/Collateral/EN2511-D.PDF; ComponentLink3Description: Package Specification; ComponentLink3URL: http://www.onsemi.cn/pub_link/Collateral/369AJ.PDF
footprint ONSC-IPAK-3-369AJ (FM, 3-Leads, Body 6.7x2.5mm, Pitch 2.3mm)
pins: 1 B, 2 C, 3 E

## 2SA1593T-TL-E
designator Q?
Bipolar Transistor, -100 V, -2 A, Low VCE(sat), PNP Single, 3-Pin TP-FA, Pb-Free, Tape and Reel; Manufacturer: On Semiconductor; PartNumber: 2SA1593T-TL-E; PackageVersion: Rev. O, 01/2012; PackageReference: TP-FA-3-369AH; PackageDescription: 3-Pin Flange Mount, Body 6.5 x 5.5 mm, Pitch 2.3 mm; Supplier 1: Digi-Key; Supplier Part Number 1: 2SA1593T-TL-E-ND; Supplier 2: Mouser; Supplier Part Number 2: 863-2SA1593T-TL-E; IC Continuous (A): -2; Packing: Tape and Reel; Polarity: PNP; RoHS: TRUE; Mounting Technology: Surface Mount; ComponentLink1Description: Manufacturer URL; ComponentLink1URL: http://www.onsemi.com/; ComponentLink2Description: Datasheet; ComponentLink2URL: http://www.onsemi.com/pub_link/Collateral/EN2511-D.PDF; ComponentLink3Description: Package Specification; ComponentLink3URL: http://www.onsemi.com/pub_link/Collateral/369AH.PDF
footprint ONSC-TP-FA-3-369AH_V (DPAK, 3-Leads, Body 6.5x5.5mm, Pitch 2.3mm)
pins: 1 B, 3 E, 4 C

## 2SA1705S-AN
designator Q?
Bipolar Transistor, -50 V, -1 A, Low VCE(sat), PNP Single, 3-Pin NMP, Pb-Free, Ammo Box; Manufacturer: On Semiconductor; PartNumber: 2SA1705S-AN; PackageVersion: Rev. A, 05/2012; PackageReference: NMP-3-135AD; PackageDescription: 3-Pin Transistor Outline, Body 6.9 x 2.5 mm, Pitch 2.54 mm; Supplier 1: Digi-Key; Supplier Part Number 1: 2SA1705S-AN-ND; Supplier 2: Newark; Supplier Part Number 2: 65T2437; Supplier 3: Mouser; Supplier Part Number 3: 863-2SA1705S-AN; IC Continuous (A): -1; Packing: Ammo Box; Polarity: PNP; RoHS: TRUE; Mounting Technology: Through Hole; ComponentLink1Description: Manufacturer URL; ComponentLink1URL: http://www.onsemi.com/; ComponentLink2Description: Datasheet; ComponentLink2URL: http://www.onsemi.com/pub_link/Collateral/EN3025-D.PDF; ComponentLink3Description: Package Specification; ComponentLink3URL: http://www.onsemi.com/pub_link/Collateral/135AD.PDF
footprint ONSC-NMP-3-135AD (NMP, 3-Leads, Body 6.9x2.45mm, Pitch 2.54mm)
pins: 1 E, 2 C, 3 B

## 2SA1705T-AN
designator Q?
Bipolar Transistor, -50 V, -1 A, Low VCE(sat), PNP Single, 3-Pin NMP, Pb-Free, Ammo Box; Manufacturer: On Semiconductor; PartNumber: 2SA1705T-AN; PackageVersion: Rev. A, 05/2012; PackageReference: NMP-3-135AD; PackageDescription: 3-Pin Transistor Outline, Body 6.9 x 2.5 mm, Pitch 2.54 mm; Supplier 1: Digi-Key; Supplier Part Number 1: 2SA1705T-AN-ND; Supplier 2: Mouser; Supplier Part Number 2: 863-2SA1705T-AN; IC Continuous (A): -1; Packing: Ammo Box; Polarity: PNP; RoHS: TRUE; Mounting Technology: Through Hole; ComponentLink1Description: Manufacturer URL; ComponentLink1URL: http://www.onsemi.com/; ComponentLink2Description: Datasheet; ComponentLink2URL: http://www.onsemi.com/pub_link/Collateral/EN3025-D.PDF; ComponentLink3Description: Package Specification; ComponentLink3URL: http://www.onsemi.com/pub_link/Collateral/135AD.PDF
footprint ONSC-NMP-3-135AD (NMP, 3-Leads, Body 6.9x2.45mm, Pitch 2.54mm)
pins: 1 E, 2 C, 3 B

## 2SA1706S-AN
designator Q?
Bipolar Transistor, -50 V, -2 A, Low VCE(sat), PNP Single, 3-Pin NMP, Pb-Free, Ammo Box; Manufacturer: On Semiconductor; PartNumber: 2SA1706S-AN; PackageVersion: Rev. A, 05/2012; PackageReference: NMP-3-135AD; PackageDescription: 3-Pin Transistor Outline, Body 6.9 x 2.5 mm, Pitch 2.54 mm; Supplier 1: Digi-Key; Supplier Part Number 1: 2SA1706S-AN-ND; Supplier 2: Mouser; Supplier Part Number 2: 863-2SA1706S-AN; IC Continuous (A): -2; Packing: Ammo Box; Polarity: PNP; RoHS: TRUE; Mounting Technology: Through Hole; ComponentLink1Description: Manufacturer URL; ComponentLink1URL: http://www.onsemi.com/; ComponentLink2Description: Datasheet; ComponentLink2URL: http://www.onsemi.com/pub_link/Collateral/EN3026-D.PDF; ComponentLink3Description: Package Specification; ComponentLink3URL: http://www.onsemi.com/pub_link/Collateral/135AD.PDF
footprint ONSC-NMP-3-135AD (NMP, 3-Leads, Body 6.9x2.45mm, Pitch 2.54mm)
pins: 1 E, 2 C, 3 B

## 2SA1706T-AN
designator Q?
Bipolar Transistor, -50 V, -2 A, Low VCE(sat), PNP Single, 3-Pin NMP, Pb-Free, Ammo Box; Manufacturer: On Semiconductor; PartNumber: 2SA1706T-AN; PackageVersion: Rev. A, 05/2012; PackageReference: NMP-3-135AD; PackageDescription: 3-Pin Transistor Outline, Body 6.9 x 2.5 mm, Pitch 2.54 mm; Supplier 1: Digi-Key; Supplier Part Number 1: 2SA1706T-AN-ND; Supplier 2: Mouser; Supplier Part Number 2: 863-2SA1706T-AN; IC Continuous (A): -2; Packing: Ammo Box; Polarity: PNP; RoHS: TRUE; Mounting Technology: Through Hole; ComponentLink1Description: Manufacturer URL; ComponentLink1URL: http://www.onsemi.com/; ComponentLink2Description: Datasheet; ComponentLink2URL: http://www.onsemi.com/pub_link/Collateral/EN3026-D.PDF; ComponentLink3Description: Package Specification; ComponentLink3URL: http://www.onsemi.com/pub_link/Collateral/135AD.PDF
footprint ONSC-NMP-3-135AD (NMP, 3-Leads, Body 6.9x2.45mm, Pitch 2.54mm)
pins: 1 E, 2 C, 3 B

## 2SA1708S-AN
designator Q?
Bipolar Transistor, -100 V, -1 A, Low VCE(sat), PNP Single, 3-Pin NMP, Pb-Free, Ammo Box; Manufacturer: On Semiconductor; PartNumber: 2SA1708S-AN; PackageVersion: Rev. A, 05/2012; PackageReference: NMP-3-135AD; PackageDescription: 3-Pin Transistor Outline, Body 6.9 x 2.5 mm, Pitch 2.54 mm; Supplier 1: Digi-Key; Supplier Part Number 1: 2SA1708S-AN-ND; Supplier 2: Newark; Supplier Part Number 2: 65T2439; Supplier 3: Mouser; Supplier Part Number 3: 863-2SA1708S-AN; IC Continuous (A): -1; Packing: Ammo Box; Polarity: PNP; RoHS: TRUE; Mounting Technology: Through Hole; ComponentLink1Description: Manufacturer URL; ComponentLink1URL: http://www.onsemi.com/; ComponentLink2Description: Datasheet; ComponentLink2URL: http://www.onsemi.com/pub_link/Collateral/EN3094-D.PDF; ComponentLink3Description: Package Specification; ComponentLink3URL: http://www.onsemi.com/pub_link/Collateral/135AD.PDF
footprint ONSC-NMP-3-135AD (NMP, 3-Leads, Body 6.9x2.45mm, Pitch 2.54mm)
pins: 1 E, 2 C, 3 B

## 2SA1708T-AN
designator Q?
Bipolar Transistor, -100 V, -1 A, Low VCE(sat), PNP Single, 3-Pin NMP, Pb-Free, Ammo Box; Manufacturer: On Semiconductor; PartNumber: 2SA1708T-AN; PackageVersion: Rev. A, 05/2012; PackageReference: NMP-3-135AD; PackageDescription: 3-Pin Transistor Outline, Body 6.9 x 2.5 mm, Pitch 2.54 mm; Supplier 1: Digi-Key; Supplier Part Number 1: 2SA1708T-AN-ND; Supplier 2: Mouser; Supplier Part Number 2: 863-2SA1708T-AN; IC Continuous (A): -1; Packing: Ammo Box; Polarity: PNP; RoHS: TRUE; Mounting Technology: Through Hole; ComponentLink1Description: Manufacturer URL; ComponentLink1URL: http://www.onsemi.com/; ComponentLink2Description: Datasheet; ComponentLink2URL: http://www.onsemi.com/pub_link/Collateral/EN3094-D.PDF; ComponentLink3Description: Package Specification; ComponentLink3URL: http://www.onsemi.com/pub_link/Collateral/135AD.PDF
footprint ONSC-NMP-3-135AD (NMP, 3-Leads, Body 6.9x2.45mm, Pitch 2.54mm)
pins: 1 E, 2 C, 3 B

## 2SA1709S-AN
designator Q?
Bipolar Transistor, -100 V, -2 A, Low VCE(sat), PNP Single, 3-Pin NMP, Pb-Free, Ammo Box; Manufacturer: On Semiconductor; PartNumber: 2SA1709S-AN; PackageVersion: Rev. A, 05/2012; PackageReference: NMP-3-135AD; PackageDescription: 3-Pin Transistor Outline, Body 6.9 x 2.5 mm, Pitch 2.54 mm; Supplier 1: Digi-Key; Supplier Part Number 1: 2SA1709S-AN-ND; Supplier 2: Mouser; Supplier Part Number 2: 863-2SA1709S-AN; IC Continuous (A): -2; Packing: Ammo Box; Polarity: PNP; RoHS: TRUE; Mounting Technology: Through Hole; ComponentLink1Description: Manufacturer URL; ComponentLink1URL: http://www.onsemi.com/; ComponentLink2Description: Datasheet; ComponentLink2URL: http://www.onsemi.com/pub_link/Collateral/EN3096-D.PDF; ComponentLink3Description: Package Specification; ComponentLink3URL: http://www.onsemi.com/pub_link/Collateral/135AD.PDF
footprint ONSC-NMP-3-135AD (NMP, 3-Leads, Body 6.9x2.45mm, Pitch 2.54mm)
pins: 1 E, 2 C, 3 B

## 2SA1709T-AN
designator Q?
Bipolar Transistor, -100 V, -2 A, Low VCE(sat), PNP Single, 3-Pin NMP, Pb-Free, Ammo Box; Manufacturer: On Semiconductor; PartNumber: 2SA1709T-AN; PackageVersion: Rev. A, 05/2012; PackageReference: NMP-3-135AD; PackageDescription: 3-Pin Transistor Outline, Body 6.9 x 2.5 mm, Pitch 2.54 mm; Supplier 1: Digi-Key; Supplier Part Number 1: 2SA1709T-AN-ND; Supplier 2: Mouser; Supplier Part Number 2: 863-2SA1709T-AN; IC Continuous (A): -2; Packing: Ammo Box; Polarity: PNP; RoHS: TRUE; Mounting Technology: Through Hole; ComponentLink1Description: Manufacturer URL; ComponentLink1URL: http://www.onsemi.com/; ComponentLink2Description: Datasheet; ComponentLink2URL: http://www.onsemi.com/pub_link/Collateral/EN3096-D.PDF; ComponentLink3Description: Package Specification; ComponentLink3URL: http://www.onsemi.com/pub_link/Collateral/135AD.PDF
footprint ONSC-NMP-3-135AD (NMP, 3-Leads, Body 6.9x2.45mm, Pitch 2.54mm)
pins: 1 E, 2 C, 3 B

## 2SA1768S-AN
designator Q?
Bipolar Transistor, -160 V, -0.7 A, Low VCE(sat), PNP Single, 3-Pin NMP, Pb-Free, Ammo Box; Manufacturer: On Semiconductor; PartNumber: 2SA1768S-AN; PackageVersion: Rev. A, 05/2012; PackageReference: NMP-3-135AD; PackageDescription: 3-Pin Transistor Outline, Body 6.9 x 2.5 mm, Pitch 2.54 mm; Supplier 1: Digi-Key; Supplier Part Number 1: 2SA1768S-AN-ND; Supplier 2: Mouser; Supplier Part Number 2: 863-2SA1768S-AN; IC Continuous (A): -0.7; Packing: Ammo Box; Polarity: PNP; RoHS: TRUE; Mounting Technology: Through Hole; ComponentLink1Description: Manufacturer URL; ComponentLink1URL: http://www.onsemi.com/; ComponentLink2Description: Datasheet; ComponentLink2URL: http://www.onsemi.com/pub_link/Collateral/EN3582-D.PDF; ComponentLink3Description: Package Specification; ComponentLink3URL: http://www.onsemi.com/pub_link/Collateral/135AD.PDF
footprint ONSC-NMP-3-135AD (NMP, 3-Leads, Body 6.9x2.45mm, Pitch 2.54mm)
pins: 1 E, 2 C, 3 B

## 2SA1768T-AN
designator Q?
Bipolar Transistor, -160 V, -0.7 A, Low VCE(sat), PNP Single, 3-Pin NMP, Pb-Free, Ammo Box; Manufacturer: On Semiconductor; PartNumber: 2SA1768T-AN; PackageVersion: Rev. A, 05/2012; PackageReference: NMP-3-135AD; PackageDescription: 3-Pin Transistor Outline, Body 6.9 x 2.5 mm, Pitch 2.54 mm; Supplier 1: Digi-Key; Supplier Part Number 1: 2SA1768T-AN-ND; Supplier 2: Mouser; Supplier Part Number 2: 863-2SA1768T-AN; IC Continuous (A): -0.7; Packing: Ammo Box; Polarity: PNP; RoHS: TRUE; Mounting Technology: Through Hole; ComponentLink1Description: Manufacturer URL; ComponentLink1URL: http://www.onsemi.com/; ComponentLink2Description: Datasheet; ComponentLink2URL: http://www.onsemi.com/pub_link/Collateral/EN3582-D.PDF; ComponentLink3Description: Package Specification; ComponentLink3URL: http://www.onsemi.com/pub_link/Collateral/135AD.PDF
footprint ONSC-NMP-3-135AD (NMP, 3-Leads, Body 6.9x2.45mm, Pitch 2.54mm)
pins: 1 E, 2 C, 3 B

## 2SA1770S-AN
designator Q?
Bipolar Transistor, -160 V, -1.5 A, Low VCE(sat), PNP Single, 3-Pin NMP, Pb-Free, Ammo Box; Manufacturer: On Semiconductor; PartNumber: 2SA1770S-AN; PackageVersion: Rev. A, 05/2012; PackageReference: NMP-3-135AD; PackageDescription: 3-Pin Transistor Outline, Body 6.9 x 2.5 mm, Pitch 2.54 mm; Supplier 1: Digi-Key; Supplier Part Number 1: 2SA1770S-AN-ND; Supplier 2: Mouser; Supplier Part Number 2: 863-2SA1770S-AN; IC Continuous (A): -1.5; Packing: Ammo Box; Polarity: PNP; RoHS: TRUE; Mounting Technology: Through Hole; ComponentLink1Description: Manufacturer URL; ComponentLink1URL: http://www.onsemi.com/; ComponentLink2Description: Datasheet; ComponentLink2URL: http://www.onsemi.com/pub_link/Collateral/EN3578-D.PDF; ComponentLink3Description: Package Specification; ComponentLink3URL: http://www.onsemi.com/pub_link/Collateral/135AD.PDF
footprint ONSC-NMP-3-135AD (NMP, 3-Leads, Body 6.9x2.45mm, Pitch 2.54mm)
pins: 1 E, 2 C, 3 B

## 2SA1770T-AN
designator Q?
Bipolar Transistor, -160 V, -1.5 A, Low VCE(sat), PNP Single, 3-Pin NMP, Pb-Free, Ammo Box; Manufacturer: On Semiconductor; PartNumber: 2SA1770T-AN; PackageVersion: Rev. A, 05/2012; PackageReference: NMP-3-135AD; PackageDescription: 3-Pin Transistor Outline, Body 6.9 x 2.5 mm, Pitch 2.54 mm; Supplier 1: Digi-Key; Supplier Part Number 1: 2SA1770T-AN-ND; Supplier 2: Mouser; Supplier Part Number 2: 863-2SA1770T-AN; IC Continuous (A): -1.5; Packing: Ammo Box; Polarity: PNP; RoHS: TRUE; Mounting Technology: Through Hole; ComponentLink1Description: Manufacturer URL; ComponentLink1URL: http://www.onsemi.com/; ComponentLink2Description: Datasheet; ComponentLink2URL: http://www.onsemi.com/pub_link/Collateral/EN3578-D.PDF; ComponentLink3Description: Package Specification; ComponentLink3URL: http://www.onsemi.com/pub_link/Collateral/135AD.PDF
footprint ONSC-NMP-3-135AD (NMP, 3-Leads, Body 6.9x2.45mm, Pitch 2.54mm)
pins: 1 E, 2 C, 3 B

## 2SA1774
designator Q?
PNP Silicon General Purpose Amplifier Transistor, 3-Pin SC-75, Tape and Reel; Manufacturer: On Semiconductor; PartNumber: 2SA1774; Note: 0; IC Continuous (A): -0.1; DatasheetVersion: Rev. 9; PackageVersion: Rev. F, 07/2005; PackageReference: SC-75-3-463-01; PackageDescription: 3-Pin Small Outline Transistor, Body 1.6 x 0.8 mm, Pitch 0.5 mm; Packing: Tape and Reel; Polarity: PNP; RoHS: FALSE; Mounting Technology: Surface Mount; ComponentLink1Description: Manufacturer URL; ComponentLink1URL: http://www.onsemi.com/; ComponentLink2Description: Datasheet; ComponentLink2URL: http://www.onsemi.com/pub_link/Collateral/2SA1774-D.PDF; ComponentLink3Description: Package Specification; ComponentLink3URL: http://www.onsemi.com/pub_link/Collateral/463-01.PDF
footprint ONSC-SC-75-3-463-01_V (SOT23, 3-Leads, Body 1.6x0.8mm, Pitch 0.5mm)
pins: 1 B, 2 E, 3 C